# Altium footprint library servos.PcbLib: 4 footprints
Each footprint in its own frame and in the unit in brackets; x right, y up, seen from the top. Pads: shape width x height; smd on the part's side, far side on the other; paste and mask are expansions set on the pad; w line width, h text height; cw(c..) or ccw(c..) is an arc to the next point about the centre after c.
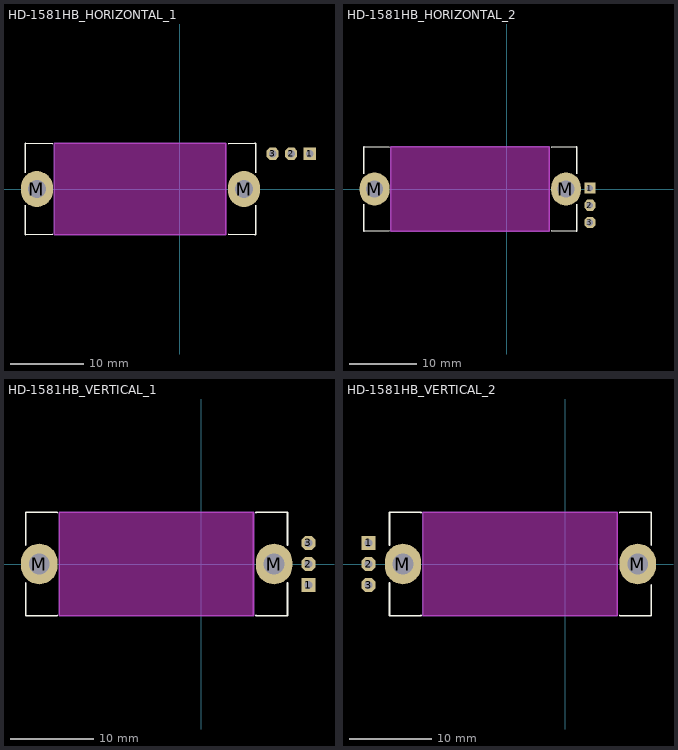
[diagram p0: the footprints below, top view; thin cyan lines are the x and y axes]

## HD-1581HB_HORIZONTAL_1 [mm]
pads (5):
  rect 1.651x1.651 hole 1: 1(17.78,4.826)
  oct 1.651x1.651 hole 1: 2(15.24,4.826) 3(12.7,4.826)
  oval 4.4x4.9 hole 2.5: M(-19.585,0) M(8.785,0)
Top Overlay:
  lines w0.2: -21.209,-2.25 -21.209,-6.25 -21.082,-6.25 -17.399,-6.223 ; -21.209,2.25 -21.209,6.25 -21.082,6.25 -17.399,6.223 ; 6.599,-6.223 10.282,-6.25 10.409,-6.25 10.409,-2.25 ; 6.599,6.223 10.282,6.25 10.409,6.25 10.409,2.25
Bottom Overlay:
  lines w0.254: 11.43,0.749 19.05,0.749 ; 11.43,3.372 19.05,3.372 ; 11.43,5.326 11.43,0.246 11.43,-5.274 19.05,-5.274 19.05,2.786 19.05,5.326 ; 16.51,0.762 16.51,2.786 16.51,5.326
Keep-Out Layer:
  board cut-out: -17.15,-6.25 -17.15,6.25 6.35,6.25 6.35,-6.25
Mechanical 15:
  lines w0.2: -17.19,-6.25 6.31,-6.25 6.31,6.25 -17.19,6.25 -17.19,-6.25
3D body "User Library-Micro Digital Servo HD-1581HB-1.STEP": height 14.95, standoff -14.75, extent -21,-6 10.2,6
3D body "Samtec-TSW-103-08-F-S-RA.STEP": height 3.07, standoff -2.26, extent 11.43,-5.112 19.05,5.112

## HD-1581HB_HORIZONTAL_2 [mil]
pads (5):
  rect 65x65 hole 39.37: 1(485,5)
  oct 65x65 hole 39.37: 2(485,-95) 3(485,-195)
  oval 173.23x192.91 hole 98.43: M(-771.06,0) M(345.87,0)
Top Overlay:
  lines w7.87: -835,-88.58 -835,-246.06 -830,-246.06 -685,-245 ; -835,88.58 -835,246.06 -830,246.06 -685,245 ; 259.81,-245 404.81,-246.06 409.81,-246.06 409.81,-88.58 ; 259.81,245 404.81,246.06 409.81,246.06 409.81,88.58
Bottom Overlay:
  lines w10: 465.31,-245 665.32,-245 882.64,-245 882.64,55 565.32,55 465.31,55 ; 465.31,-45 565.32,-45 645,-45 ; 542.24,-245 542.24,55 ; 645.51,-245 645.51,55
Keep-Out Layer:
  board cut-out: -675.2,-246.06 -675.2,246.06 250,246.06 250,-246.06
Mechanical 15:
  lines w7.87: -676.77,-246.06 248.43,-246.06 248.43,246.06 -676.77,246.06 -676.77,-246.06
3D body "User Library-Micro Digital Servo HD-1581HB-1.STEP": height 588.54, standoff -580.75, extent -826.77,-236.22 401.58,236.22
3D body "Samtec-TSW-103-08-F-S-RA.STEP": height 120.87, standoff -89.13, extent 473.75,-245 876.25,55

## HD-1581HB_VERTICAL_1 [mm]
pads (5):
  rect 1.651x1.651 hole 1: 1(12.946,-2.54)
  oct 1.651x1.651 hole 1: 2(12.946,0) 3(12.946,2.54)
  oval 4.4x4.9 hole 2.5: M(-19.585,0) M(8.785,0)
Top Overlay:
  lines w0.2: -21.209,-2.25 -21.209,-6.25 -21.082,-6.25 -17.399,-6.223 ; -21.209,2.25 -21.209,6.25 -21.082,6.25 -17.399,6.223 ; 6.599,-6.223 10.282,-6.25 10.409,-6.25 10.409,-2.25 ; 6.599,6.223 10.282,6.25 10.409,6.25 10.409,2.25
Bottom Overlay:
  region: 12.946,-4.19 12.196,-4.94 13.696,-4.94
  lines w0.254: 11.676,-1.27 14.216,-1.27 ; 11.676,-3.81 11.676,3.81 14.216,3.81 14.216,-3.81 13.446,-3.81 11.676,-3.81
  text "GND" at 17.75,1.25 h1.3
  text "VCC" at 17.75,-1.25 h1.3
  text "SIG" at 17.75,-3.79 h1.3
Keep-Out Layer:
  board cut-out: -17.15,-6.25 -17.15,6.25 6.35,6.25 6.35,-6.25
Mechanical 15:
  lines w0.2: -17.19,-6.25 6.31,-6.25 6.31,6.25 -17.19,6.25 -17.19,-6.25
3D body "User Library-Micro Digital Servo HD-1581HB-1.STEP": height 14.95, standoff -14.75, extent -21,-6 10.2,6
3D body "Samtec-TSW-103-23-F-S.STEP": height 8.38, standoff -2.92, extent 11.676,-3.81 14.216,3.81

## HD-1581HB_VERTICAL_2 [mm]
pads (5):
  rect 1.651x1.651 hole 1: 1(-23.75,2.54)
  oct 1.651x1.651 hole 1: 2(-23.75,0) 3(-23.75,-2.54)
  oval 4.4x4.9 hole 2.5: M(-19.585,0) M(8.785,0)
Top Overlay:
  lines w0.2: -21.209,-2.25 -21.209,-6.25 -21.082,-6.25 -17.399,-6.223 ; -21.209,2.25 -21.209,6.25 -21.082,6.25 -17.399,6.223 ; 6.599,-6.223 10.282,-6.25 10.409,-6.25 10.409,-2.5 ; 6.599,6.223 10.282,6.25 10.409,6.25 10.409,2.25
Bottom Overlay:
  region: -23.75,4.19 -23,4.94 -24.5,4.94
  lines w0.254: -25.02,1.27 -22.48,1.27 ; -25.02,-3.81 -22.48,-3.81 -22.48,3.81 -24.25,3.81 -25.02,3.81 -25.02,-3.81
  text "SIG" at -28.554,3.79 h1.3
  text "VCC" at -28.554,1.25 h1.3
  text "GND" at -28.554,-1.25 h1.3
Keep-Out Layer:
  board cut-out: -17.15,-6.25 -17.15,6.25 6.35,6.25 6.35,-6.25
Mechanical 15:
  lines w0.2: -17.19,-6.25 6.31,-6.25 6.31,6.25 -17.19,6.25 -17.19,-6.25
3D body "User Library-Micro Digital Servo HD-1581HB-1.STEP": height 14.95, standoff -14.75, extent -21,-6 10.2,6
3D body "Samtec-TSW-103-23-F-S.STEP": height 8.38, standoff -2.92, extent -25.02,-3.81 -22.48,3.81